# Altium schematic symbol library 6-MK60DN512VLL10核心板.SCHLIB: 19 symbols
Pins are listed as number, name and electrical type; pins without a type are passive.

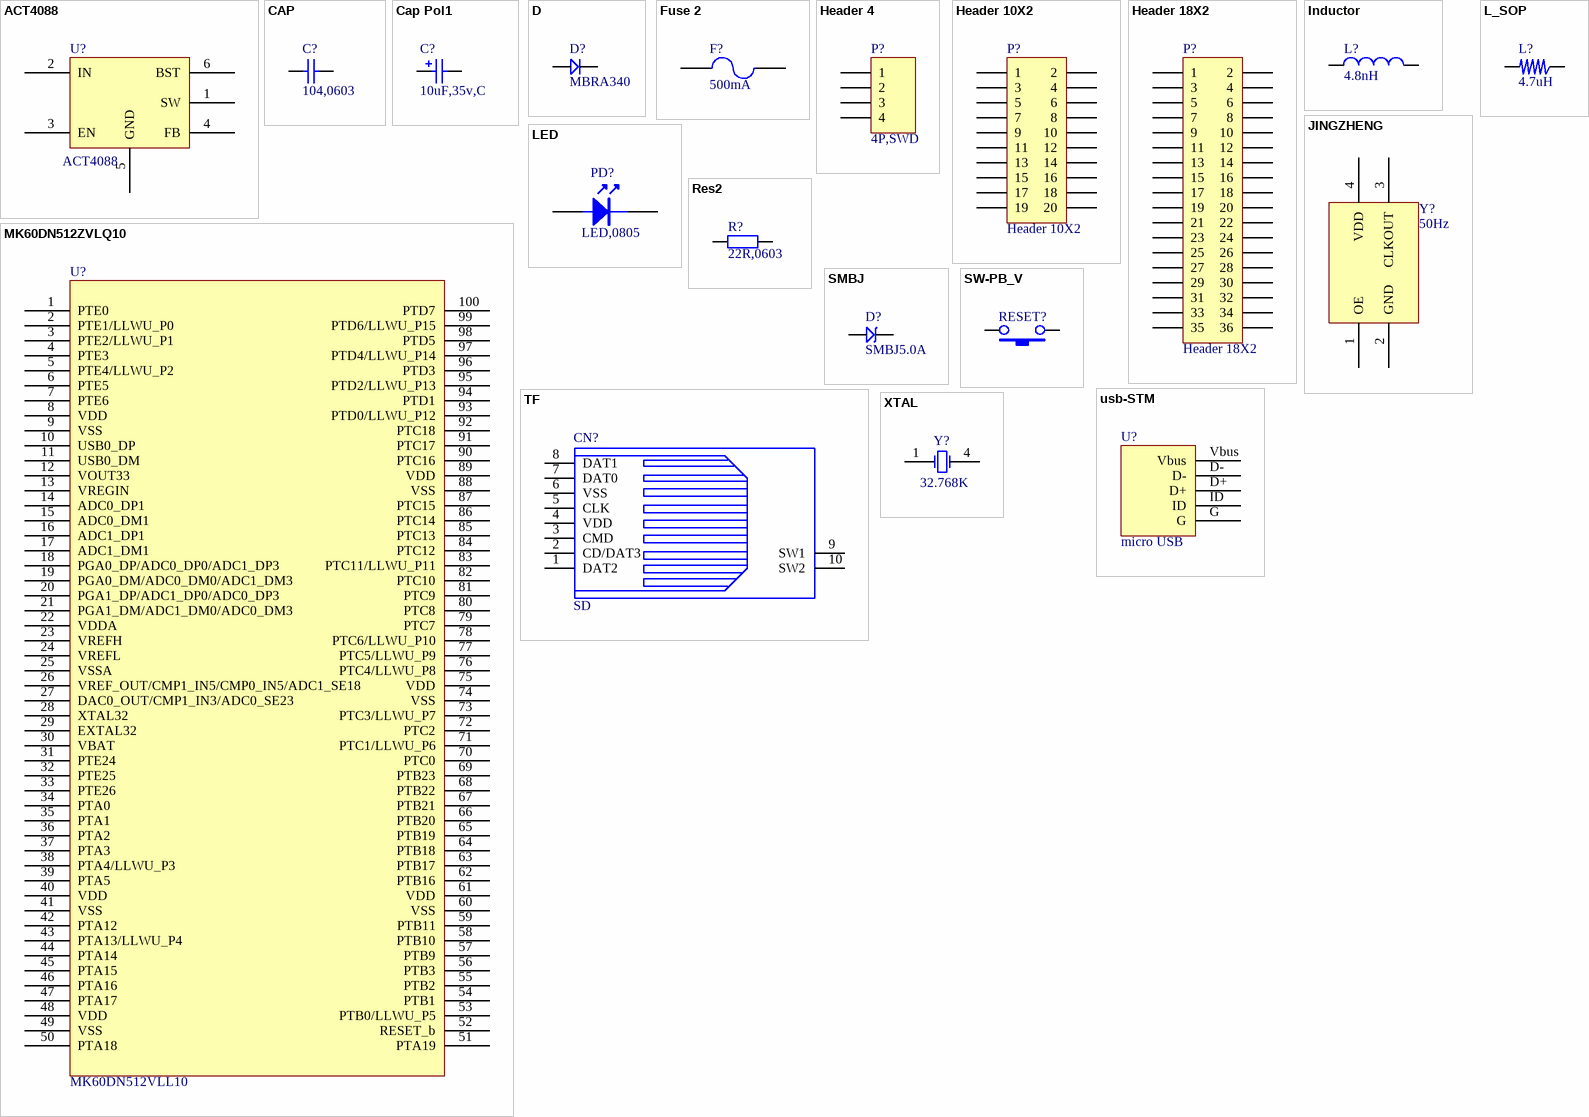
[diagram p0: symbols ACT4088 to XTAL]

## ACT4088
designator U?
footprint SOT-23-6
pins: 1 SW, 2 IN, 3 EN, 4 FB, 5 GND, 6 BST

## CAP
designator C?, comment 104,0603
Capacitor; Published: 8-Jun-2000; Revision: July-2002: Re-released for DXP Platform.; Publisher: Altium Limited
footprint RAD-0.3 (Capacitor; 2 Leads)
simulation model CAP (Capacitor)
signal-integrity model Cap
footprint CAPR5.08-7.8X3.2
footprint CAPR2.54-5.1X3.2
footprint 0603
footprint 0805
footprint C0603
footprint C0805
footprint C2012
pins: 1, 2

## Cap Pol1
designator C?  value 10uF,35v,C  (hidden comment: Cap Pol1)
Polarized Capacitor (Radial); Published: 8-Jun-2000; LatestRevisionDate: 17-Jul-2002; LatestRevisionNote: Re-released for DXP Platform.; PackageReference: RB7.6-15; Publisher: Altium Limited; PackageDescription: Polarized Capacitor (Radial); 2 Leads
footprint EC6032C
simulation model CAP (Capacitor)
signal-integrity model Cap Pol
pins: 1, 2
1 alternate drawing of the same symbol

## D
designator D?, comment MBRA340
1N4148
footprint SOD-123
footprint DIODE_SOP (4148)
footprint DIODE-L (6A10)
footprint DIODE-M (1N5822)
footprint DIODE_S (1N4007)
footprint DIODE_3*5.3
footprint DIODE_4*5.6 (ME:RS2J.L:5.6mm;W:4mm)
footprint DIODE_6.2*8.13 (ME:RS2J.L:8.13mm;W:6.2mm)
pins: 1, 2

## Fuse 2
designator F?, comment 500mA
Fuse; Published: 8-Jun-2000; LatestRevisionDate: 17-Jul-2002; LatestRevisionNote: Re-released for DXP Platform.; PackageReference: PIN-W2/E2.8; Publisher: Altium Limited
footprint fuse
simulation model FUSE (Spice Subcircuit)
pins: 1, 2

## Header 4
designator P?, comment 4P,SWD
Header, 4-Pin; LatestRevisionDate: 17-Jul-2002; LatestRevisionNote: Re-released for DXP Platform.; Publisher: Altium Limited
footprint HDR1X4 (Connector; Header; 4 Position)
pins: 1, 2, 3, 4

## Header 10X2
designator P?
Header, 10-Pin, Dual row; LatestRevisionDate: 17-Jul-2002; LatestRevisionNote: Re-released for DXP Platform.; Publisher: Altium Limited
footprint HDR2X10 (Connector; Header; 10x2 Position)
signal-integrity model Connector
pins: 1, 2, 3, 4, 5, 6, 7, 8, 9, 10, 11, 12, 13, 14, 15, 16, 17, 18, 19, 20

## Header 18X2
designator P?
Header, 18-Pin, Dual row; LatestRevisionDate: 17-Jul-2002; LatestRevisionNote: Re-released for DXP Platform.; Publisher: Altium Limited
footprint HDR2X18 (Connector; Header; 18x2 Position)
signal-integrity model Connector
pins: 1, 2, 3, 4, 5, 6, 7, 8, 9, 10, 11, 12, 13, 14, 15, 16, 17, 18, 19, 20, 21, 22, 23, 24, 25, 26, 27, 28, 29, 30, 31, 32, 33, 34, 35, 36

## Inductor
designator L?, comment 4.8nH
Inductor; Code_IEC: 1005; Published: 8-Jun-2000; LatestRevisionDate: 17-Jul-2002; LatestRevisionNote: Re-released for DXP Platform.; PackageReference: 0402-A; Publisher: Altium Limited; Code_JEITA: 0402
footprint L0603
footprint L0603 (Chip Inductor; Body 1.6 x 0.8 mm (LxW typ))
footprint 2012_Chip (2012 Chip; Chip Inductor; Body 2.0 x 1.2 mm (LxW typ))
footprint 2029 (Chip Inductor; Body 2 x 1.2 mm (LxW typ))
footprint 3261 (3216 Chip; Chip Inductor; Body 3.2 x 1.6 mm (LxW typ))
footprint 4564_Chip (4564 Chip; Chip Inductor; Body 4.5 x 6.4 mm (LxW typ))
pins: 1, 2

## JINGZHENG
designator Y?, comment 50Hz
footprint 5070
pins: 1 OE, 2 GND, 3 CLKOUT, 4 VDD

## L_SOP
designator L?, comment 4.7uH
footprint L_SOPL (L_LARGE)
footprint L_SOPS (L_4*4)
footprint L10 (10mH)
footprint H0805
pins: 1, 2

## LED
designator PD?, comment LED,0805
footprint 0805; pin to pad A>1 K>2
footprint LED; pin to pad A>1 K>2
pins: A 1, K 2

## MK60DN512ZVLQ10
designator U?, comment MK60DN512VLL10
MK60DN512ZVLL10
footprint Model Name (Footprint not found)
footprint LQFP-100
pins: 1 PTE0, 2 PTE1/LLWU_P0, 3 PTE2/LLWU_P1, 4 PTE3, 5 PTE4/LLWU_P2, 6 PTE5, 7 PTE6, 8 VDD, 9 VSS, 10 USB0_DP, 11 USB0_DM, 12 VOUT33, 13 VREGIN, 14 ADC0_DP1, 15 ADC0_DM1, 16 ADC1_DP1, 17 ADC1_DM1, 18 PGA0_DP/ADC0_DP0/ADC1_DP3, 19 PGA0_DM/ADC0_DM0/ADC1_DM3, 20 PGA1_DP/ADC1_DP0/ADC0_DP3, 21 PGA1_DM/ADC1_DM0/ADC0_DM3, 22 VDDA, 23 VREFH, 24 VREFL, 25 VSSA, 26 VREF_OUT/CMP1_IN5/CMP0_IN5/ADC1_SE18, 27 DAC0_OUT/CMP1_IN3/ADC0_SE23, 28 XTAL32, 29 EXTAL32, 30 VBAT, 31 PTE24, 32 PTE25, 33 PTE26, 34 PTA0, 35 PTA1, 36 PTA2, 37 PTA3, 38 PTA4/LLWU_P3, 39 PTA5, 40 VDD, 41 VSS, 42 PTA12, 43 PTA13/LLWU_P4, 44 PTA14, 45 PTA15, 46 PTA16, 47 PTA17, 48 VDD, 49 VSS, 50 PTA18, 51 PTA19, 52 RESET_b, 53 PTB0/LLWU_P5, 54 PTB1, 55 PTB2, 56 PTB3, 57 PTB9, 58 PTB10, 59 PTB11, 60 VSS, 61 VDD, 62 PTB16, 63 PTB17, 64 PTB18, 65 PTB19, 66 PTB20, 67 PTB21, 68 PTB22, 69 PTB23, 70 PTC0, 71 PTC1/LLWU_P6, 72 PTC2, 73 PTC3/LLWU_P7, 74 VSS, 75 VDD, 76 PTC4/LLWU_P8, 77 PTC5/LLWU_P9, 78 PTC6/LLWU_P10, 79 PTC7, 80 PTC8, 81 PTC9, 82 PTC10, 83 PTC11/LLWU_P11, 84 PTC12, 85 PTC13, 86 PTC14, 87 PTC15, 88 VSS, 89 VDD, 90 PTC16, 91 PTC17, 92 PTC18, 93 PTD0/LLWU_P12, 94 PTD1, 95 PTD2/LLWU_P13, 96 PTD3, 97 PTD4/LLWU_P14, 98 PTD5, 99 PTD6/LLWU_P15, 100 PTD7

## Res2
designator R?, comment 22R,0603
Resistor; Published: 8-Jun-2000; LatestRevisionDate: 17-Jul-2002; LatestRevisionNote: Re-released for DXP Platform.; PackageReference: AXIAL-0.4; Publisher: Altium Limited
footprint 0805
simulation model RESISTOR (Resistor)
signal-integrity model Res
footprint R0603
pins: 1, 2

## SMBJ
designator D?, comment SMBJ5.0A
TVS
footprint SMBJ (3.9*5.6)
pins: 1, 2

## SW-PB_V
designator RESET?
SWITCH
footprint KEY-SMT
footprint SW/4/SMT
footprint SW/2/R1
footprint KEY/01
pins: 1, 2

## TF
designator CN?, comment SD
footprint TF
pins: 1 DAT2, 2 CD/DAT3, 3 CMD, 4 VDD, 5 CLK, 6 VSS, 7 DAT0, 8 DAT1, 9 SW1, 10 SW2

## usb-STM
designator U?, comment micro USB
footprint Micro_USB
pins: D+, D-, G, ID, Vbus

## XTAL
designator Y?, comment 32.768K
Crystal Oscillator; Published: 8-Jun-2000; LatestRevisionDate: 17-Jul-2002; LatestRevisionNote: Re-released for DXP Platform.; Publisher: Altium Limited
footprint MC-306
pins: 1 OSC1, 4 OSC2